# Altium schematic symbol library SCH - POWER - LINEAR VREG - TI TPS74201_KTW_7.SchLib: 1 symbol
Pins are listed as number, name and electrical type; pins without a type are passive.

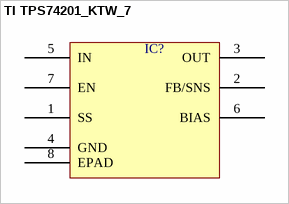
[diagram p0: symbol TI TPS74201_KTW_7]

## TI TPS74201_KTW_7
designator IC?  (value not drawn)
pins: 1 SS, 2 FB/SNS, 3 OUT, 4 GND, 5 IN, 6 BIAS, 7 EN, 8 EPAD